# EAGLE library part S811-1X1T-06-F (library Modular Jacks)
CONN MAGJACK 1PORT 100 BASE-T Manufacturer's datasheet <https://belfuse.com/resources/drawings/magneticsolutions/dr-mag-s811-1x1t-06-f.pdf>
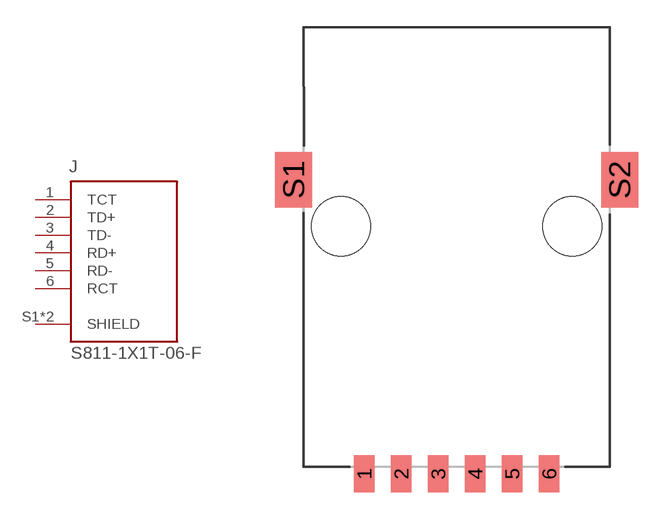
[diagram p5: symbol with the pads of S811-1X1T-06-F; footprint S811-1X1T-06-F]

Designator prefix J

## S811-1X1T-06-F (CREATED_BY: PCBLayout.com; DIGIKEY_PARTNO: 507-1456-2-ND; MANUFACTURER: Belfuse; MPN: S811-1X1T-06-F)  [S811-1X1T-06-F]
1  TCT  pas
2  TD+  pas
3  TD-  pas
4  RD+  pas
5  RD-  pas
6  RCT  pas
S1  SHIELD  pwr
S2  SHIELD  pwr

## Footprint S811-1X1T-06-F (pad centres in mm)
smd 1.14 x 2.03: 1 -5.075,-13.59; 2 -3.045,-13.59; 3 -1.015,-13.59; 4 1.015,-13.59; 5 3.045,-13.59; 6 5.075,-13.59
smd 2.03 x 3.05: S1 -8.95,2.54; S2 8.95,2.54
hole 3.25 at -6.35,0
hole 3.25 at 6.35,0